# Altium schematic symbol library CN 3POS JST B3B-ZR.Schlib: 1 symbol
Pins are listed as number, name and electrical type; pins without a type are passive.

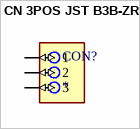
[diagram p0: symbol CN 3POS JST B3B-ZR]

## CN 3POS JST B3B-ZR
designator CON?
Connector Header Through Hole 3 position 0.059 (1.50mm)
pins: 1 (io), 2 (io), 3 (io)